# Altium footprint library Atmel.PcbLib: 4 footprints
Each footprint in its own frame and in the unit in brackets; x right, y up, seen from the top. Pads: shape width x height; smd on the part's side, far side on the other; paste and mask are expansions set on the pad; w line width, h text height; cw(c..) or ccw(c..) is an arc to the next point about the centre after c.
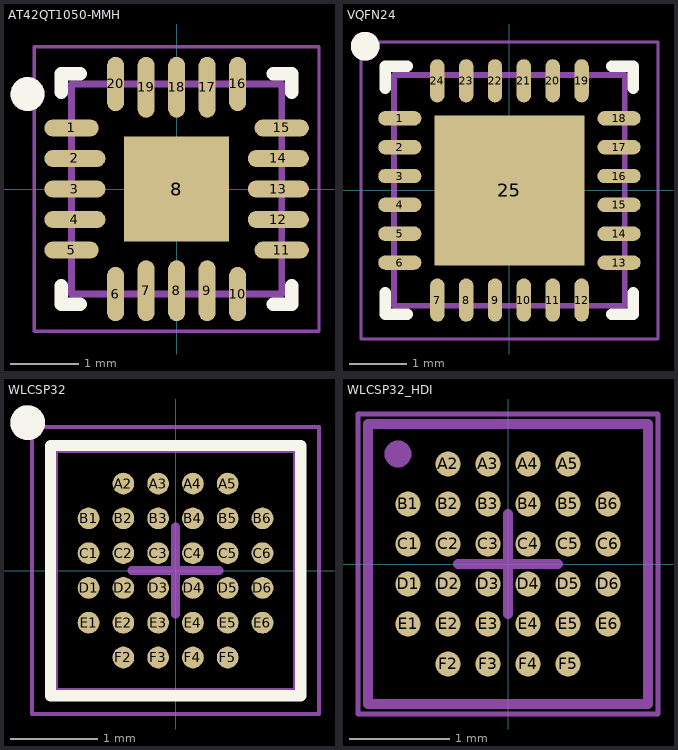
[diagram p0: the footprints below, top view; thin cyan lines are the x and y axes]

## AT42QT1050-MMH [mm] "QFN, 20-Leads, Body 3.00x3.00mm, Pitch 0.45mm, Thermal Pad 1.55x1.55mm, IPC Medium Density"
height 0.85
pads (21):
  oval 0.8x0.25 smd: 1(-1.55,0.9) 5(-1.55,-0.9) 11(1.55,-0.9) 15(1.55,0.9)
  oval 0.9x0.25 smd: 2(-1.5,0.45) 3(-1.5,0) 4(-1.5,-0.45) 12(1.5,-0.45) 13(1.5,0) 14(1.5,0.45)
  oval 0.25x0.8 smd: 6(-0.9,-1.55) 10(0.9,-1.55) 16(0.9,1.55) 20(-0.9,1.55)
  oval 0.25x0.9 smd: 7(-0.45,-1.5) 8(0,-1.5) 9(0.45,-1.5) 17(0.45,1.5) 18(0,1.5) 19(-0.45,1.5)
  rect 1.55x1.55 smd: 8(0,0)
Top Overlay:
  circle w0.25: c-2.2,1.4 r0.125
  lines w0.2: -1.7,-1.425 -1.7,-1.7 -1.425,-1.7 ; -1.7,1.425 -1.7,1.7 -1.425,1.7 ; 1.425,-1.7 1.7,-1.7 1.7,-1.425 ; 1.425,1.7 1.7,1.7 1.7,1.425
Top 3D Body:
  circle w0.25: c-2.2,1.4 r0.125
  lines w0.1: -1.55,-1.55 1.55,-1.55 1.55,1.55 -1.55,1.55 -1.55,-1.55
Top Assembly (Mech15):
  lines w0.05: -2.1,-2.1 -2.1,2.1 2.1,2.1 2.1,-2.1 -2.1,-2.1
  lines w0.1: -0.5,0 0.5,0 ; 0,-0.5 0,0.5
3D body "QFN45P300X300X85_HS-21N.step": height 0.85, standoff 0, extent -1.56,-1.56 1.56,1.56

## VQFN24 [mm] "Atmel VQFN-24 0.5mm pitch 4x4mm body"
height 0.9
pads (25):
  oval 0.75x0.25 smd paste-0.05 mask+0.07: 1(-1.9,1.25) 2(-1.9,0.75) 3(-1.9,0.25) 4(-1.9,-0.25) 5(-1.9,-0.75) 6(-1.9,-1.25) 13(1.9,-1.25) 14(1.9,-0.75) 15(1.9,-0.25) 16(1.9,0.25) 17(1.9,0.75) 18(1.9,1.25)
  oval 0.25x0.75 smd paste-0.05 mask+0.07: 7(-1.25,-1.9) 8(-0.75,-1.9) 9(-0.25,-1.9) 10(0.25,-1.9) 11(0.75,-1.9) 12(1.25,-1.9) 19(1.25,1.9) 20(0.75,1.9) 21(0.25,1.9) 22(-0.25,1.9) 23(-0.75,1.9) 24(-1.25,1.9)
  rect 2.6x2.6 smd paste-5 mask+0.05: 25(0,0)
Top Overlay:
  circle w0.25: c-2.5,2.5 r0.125
  lines w0.2: -2.15,-1.775 -2.15,-2.15 -1.775,-2.15 ; -2.15,1.775 -2.15,2.15 -1.775,2.15 ; 1.775,-2.15 2.15,-2.15 2.15,-1.775 ; 1.775,2.15 2.15,2.15 2.15,1.775
Top Paste:
  rectangle: -1.1,-1.1 -0.2,-0.2
  rectangle: -1.1,0.2 -0.2,1.1
  rectangle: 0.2,0.2 1.1,1.1
  rectangle: 0.2,-1.1 1.1,-0.2
Top 3D Body:
  circle w0.25: c-2.5,2.5 r0.125
  lines w0.1: -2,-2 -2,2 2,2 2,-2 -2,-2
Top Assembly (Mech15):
  lines w0.05: -2.575,-2.575 -2.575,2.575 2.575,2.575 2.575,-2.575 -2.575,-2.575
  lines w0.1: -0.5,0 0.5,0 ; 0,-0.5 0,0.5
3D body: height 0.9, standoff 0.05, extent -2,-2 2,2

## WLCSP32 [mm]
pads (32):
  round 0.25 smd: A2(-0.6,1) A3(-0.2,1) A4(0.2,1) A5(0.6,1) B1(-1,0.6) B2(-0.6,0.6) B3(-0.2,0.6) B4(0.2,0.6) B5(0.6,0.6) B6(1,0.6) C1(-1,0.2) C2(-0.6,0.2) C3(-0.2,0.2) C4(0.2,0.2) C5(0.6,0.2) C6(1,0.2) D1(-1,-0.2) D2(-0.6,-0.2) D3(-0.2,-0.2) D4(0.2,-0.2) D5(0.6,-0.2) D6(1,-0.2) E1(-1,-0.6) E2(-0.6,-0.6) E3(-0.2,-0.6) E4(0.2,-0.6) E5(0.6,-0.6) E6(1,-0.6) F2(-0.6,-1) F3(-0.2,-1) F4(0.2,-1) F5(0.6,-1)
Top Overlay:
  circle w0.2: c-1.7,1.7 r0.1
  lines w0.127: -1.44,-1.44 -1.44,1.44 1.44,1.44 1.44,-1.44 -1.44,-1.44
Top 3D Body:
  circle w0.2: c-1.7,1.7 r0.1
  lines w0.1: -1.4,-1.4 1.4,-1.4 1.4,1.4 -1.4,1.4 -1.4,-1.4
Top Assembly (Mech15):
  lines w0.05: -1.65,-1.65 1.65,-1.65 1.65,1.65 -1.65,1.65 -1.65,-1.65
  lines w0.1: -0.5,0 0.5,0 ; 0,-0.5 0,0.5
3D body: height 0.48, standoff 0, extent -1.4,-1.4 1.4,1.4

## WLCSP32_HDI [mm]
pads (32):
  round 0.25 smd mask+0.051: A2(-0.6,1) A3(-0.2,1) A4(0.2,1) A5(0.6,1) B1(-1,0.6) B2(-0.6,0.6) B3(-0.2,0.6) B4(0.2,0.6) B5(0.6,0.6) B6(1,0.6) C1(-1,0.2) C2(-0.6,0.2) C3(-0.2,0.2) C4(0.2,0.2) C5(0.6,0.2) C6(1,0.2) D1(-1,-0.2) D2(-0.6,-0.2) D3(-0.2,-0.2) D4(0.2,-0.2) D5(0.6,-0.2) D6(1,-0.2) E1(-1,-0.6) E2(-0.6,-0.6) E3(-0.2,-0.6) E4(0.2,-0.6) E5(0.6,-0.6) E6(1,-0.6) F2(-0.6,-1) F3(-0.2,-1) F4(0.2,-1) F5(0.6,-1)
Top 3D Body:
  circle w0.15: c-1.1,1.1 r0.06
  lines w0.1: -1.4,-1.4 -1.4,1.4 1.4,1.4 1.4,-1.4 -1.4,-1.4
Top Assembly (Mech15):
  lines w0.05: -1.5,-1.5 -1.5,1.5 1.5,1.5 1.5,-1.5 -1.5,-1.5
  lines w0.1: -0.5,0 0.5,0 ; 0,-0.5 0,0.5
3D body: height 0.48, standoff 0, extent -1.4,-1.4 1.4,1.4